# EAGLE library part D9-1CS (library DPX-DIODES)
8 DIODES SIL, common cathode (single gate)
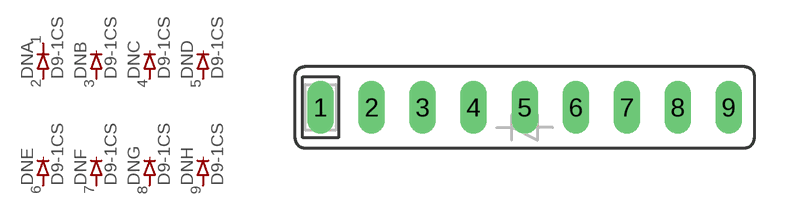
[diagram p1: symbol with the pads of SIL09C; footprint SIL09C]

Designator prefix DN; gates A=DN B=DNC C=DNC D=DNC E=DNC F=DNC G=DNC H=DNC

## D9-1CS  [SIL09C]
1  A:C  pas
2  A:A  pas
3  B:A  pas
4  C:A  pas
5  D:A  pas
6  E:A  pas
7  F:A  pas
8  G:A  pas
9  H:A  pas

## Footprint SIL09C (pad centres in mm)
8 DIODES single in line 8 diodes with common cathode
drill 0.813 long: 1 -10.16,0; 2 -7.62,0; 3 -5.08,0; 4 -2.54,0; 5 0,0; 6 2.54,0; 7 5.08,0; 8 7.62,0; 9 10.16,0